# EAGLE library part 220MEZ (library combrd)
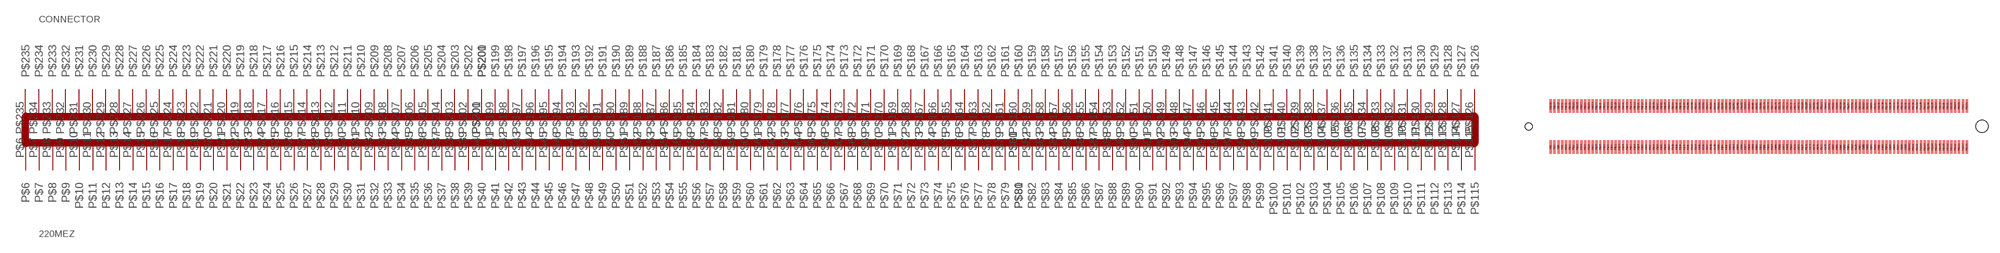
[diagram p0: symbol with the pads of MEZZANINE220; footprint MEZZANINE220]

Designator prefix CONNECTOR

## 220MEZ  [MEZZANINE220]
P$6  P$6
P$7  P$7
P$8  P$8
P$9  P$9
P$10  P$10
P$11  P$11
P$12  P$12
P$13  P$13
P$14  P$14
P$15  P$15
P$16  P$16
P$17  P$17
P$18  P$18
P$19  P$19
P$20  P$20
P$21  P$21
P$22  P$22
P$23  P$23
P$24  P$24
P$25  P$25
P$26  P$26
P$27  P$27
P$28  P$28
P$29  P$29
P$30  P$30
P$31  P$31
P$32  P$32
P$33  P$33
P$34  P$34
P$35  P$35
P$36  P$36
P$37  P$37
P$38  P$38
P$39  P$39
P$40  P$40
P$41  P$41
P$42  P$42
P$43  P$43
P$44  P$44
P$45  P$45
P$46  P$46
P$47  P$47
P$48  P$48
P$49  P$49
P$50  P$50
P$51  P$51
P$52  P$52
P$53  P$53
P$54  P$54
P$55  P$55
P$56  P$56
P$57  P$57
P$58  P$58
P$59  P$59
P$60  P$60
P$61  P$61
P$62  P$62
P$63  P$63
P$64  P$64
P$65  P$65
P$66  P$66
P$67  P$67
P$68  P$68
P$69  P$69
P$70  P$70
P$71  P$71
P$72  P$72
P$73  P$73
P$74  P$74
P$75  P$75
P$76  P$76
P$77  P$77
P$78  P$78
P$79  P$79
P$80  P$80
P$81  P$81
P$82  P$82
P$83  P$83
P$84  P$84
P$85  P$85
P$86  P$86
P$87  P$87
P$88  P$88
P$89  P$89
P$90  P$90
P$91  P$91
P$92  P$92
P$93  P$93
P$94  P$94
P$95  P$95
P$96  P$96
P$97  P$97
P$98  P$98
P$99  P$99
P$100  P$100
P$101  P$101
P$102  P$102
P$103  P$103
P$104  P$104
P$105  P$105
P$106  P$106
P$107  P$107
P$108  P$108
P$109  P$109
P$110  P$110
P$111  P$111
P$112  P$112
P$113  P$113
P$114  P$114
P$115  P$115
P$126  P$126
P$127  P$127
P$128  P$128
P$129  P$129
P$130  P$130
P$131  P$131
P$132  P$132
P$133  P$133
P$134  P$134
P$135  P$135
P$136  P$136
P$137  P$137
P$138  P$138
P$139  P$139
P$140  P$140
P$141  P$141
P$142  P$142
P$143  P$143
P$144  P$144
P$145  P$145
P$146  P$146
P$147  P$147
P$148  P$148
P$149  P$149
P$150  P$150
P$151  P$151
P$152  P$152
P$153  P$153
P$154  P$154
P$155  P$155
P$156  P$156
P$157  P$157
P$158  P$158
P$159  P$159
P$160  P$160
P$161  P$161
P$162  P$162
P$163  P$163
P$164  P$164
P$165  P$165
P$166  P$166
P$167  P$167
P$168  P$168
P$169  P$169
P$170  P$170
P$171  P$171
P$172  P$172
P$173  P$173
P$174  P$174
P$175  P$175
P$176  P$176
P$177  P$177
P$178  P$178
P$179  P$179
P$180  P$180
P$181  P$181
P$182  P$182
P$183  P$183
P$184  P$184
P$185  P$185
P$186  P$186
P$187  P$187
P$188  P$188
P$189  P$189
P$190  P$190
P$191  P$191
P$192  P$192
P$193  P$193
P$194  P$194
P$195  P$195
P$196  P$196
P$197  P$197
P$198  P$198
P$199  P$199
P$200  P$200
P$201  P$201
P$202  P$202
P$203  P$203
P$204  P$204
P$205  P$205
P$206  P$206
P$207  P$207
P$208  P$208
P$209  P$209
P$210  P$210
P$211  P$211
P$212  P$212
P$213  P$213
P$214  P$214
P$215  P$215
P$216  P$216
P$217  P$217
P$218  P$218
P$219  P$219
P$220  P$220
P$221  P$221
P$222  P$222
P$223  P$223
P$224  P$224
P$225  P$225
P$226  P$226
P$227  P$227
P$228  P$228
P$229  P$229
P$230  P$230
P$231  P$231
P$232  P$232
P$233  P$233
P$234  P$234
P$235  P$235

## Footprint MEZZANINE220 (pad centres in mm)
smd 0.3 x 1.75: P$6 2.7,0.9; P$7 3.2,0.9; P$8 3.7,0.9; P$9 4.2,0.9; P$10 4.7,0.9; P$11 5.2,0.9; P$12 5.7,0.9; P$13 6.2,0.9; P$14 6.7,0.9; P$15 7.2,0.9; P$16 7.7,0.9; P$17 8.2,0.9; P$18 8.7,0.9; P$19 9.2,0.9; P$20 9.7,0.9; P$21 10.2,0.9; P$22 10.7,0.9; P$23 11.2,0.9; P$24 11.7,0.9; P$25 12.2,0.9; P$26 12.7,0.9; P$27 13.2,0.9; P$28 13.7,0.9; P$29 14.2,0.9; P$30 14.7,0.9; P$31 15.2,0.9; P$32 15.7,0.9; P$33 16.2,0.9; P$34 16.7,0.9; P$35 17.2,0.9; P$36 17.7,0.9; P$37 18.2,0.9; P$38 18.7,0.9; P$39 19.2,0.9; P$40 19.7,0.9; P$41 20.2,0.9; P$42 20.7,0.9; P$43 21.2,0.9; P$44 21.7,0.9; P$45 22.2,0.9; P$46 22.7,0.9; P$47 23.2,0.9; P$48 23.7,0.9; P$49 24.2,0.9; P$50 24.7,0.9; P$51 25.2,0.9; P$52 25.7,0.9; P$53 26.2,0.9; P$54 26.7,0.9; P$55 27.2,0.9; P$56 27.7,0.9; P$57 28.2,0.9; P$58 28.7,0.9; P$59 29.2,0.9; P$60 29.7,0.9; P$61 30.2,0.9; P$62 30.7,0.9; P$63 31.2,0.9; P$64 31.7,0.9; P$65 32.2,0.9; P$66 32.7,0.9; P$67 33.2,0.9; P$68 33.7,0.9; P$69 34.2,0.9; P$70 34.7,0.9; P$71 35.2,0.9; P$72 35.7,0.9; P$73 36.2,0.9; P$74 36.7,0.9; P$75 37.2,0.9; P$76 37.7,0.9; P$77 38.2,0.9; P$78 38.7,0.9; P$79 39.2,0.9; P$80 39.7,0.9; P$81 40.2,0.9; P$82 40.7,0.9; P$83 41.2,0.9; P$84 41.7,0.9; P$85 42.2,0.9; P$86 42.7,0.9; P$87 43.2,0.9; P$88 43.7,0.9; P$89 44.2,0.9; P$90 44.7,0.9; P$91 45.2,0.9; P$92 45.7,0.9; P$93 46.2,0.9; P$94 46.7,0.9; P$95 47.2,0.9; P$96 47.7,0.9; P$97 48.2,0.9; P$98 48.7,0.9; P$99 49.2,0.9; P$100 49.7,0.9; P$101 50.2,0.9; P$102 50.7,0.9; P$103 51.2,0.9; P$104 51.7,0.9; P$105 52.2,0.9; P$106 52.7,0.9; P$107 53.2,0.9; P$108 53.7,0.9; P$109 54.2,0.9; P$110 54.7,0.9; P$111 55.2,0.9; P$112 55.7,0.9; P$113 56.2,0.9; P$114 56.7,0.9; P$115 57.2,0.9; P$126 57.2,6.3; P$127 56.7,6.3; P$128 56.2,6.3; P$129 55.7,6.3; P$130 55.2,6.3; P$131 54.7,6.3; P$132 54.2,6.3; P$133 53.7,6.3; P$134 53.2,6.3; P$135 52.7,6.3; P$136 52.2,6.3; P$137 51.7,6.3; P$138 51.2,6.3; P$139 50.7,6.3; P$140 50.2,6.3; P$141 49.7,6.3; P$142 49.2,6.3; P$143 48.7,6.3; P$144 48.2,6.3; P$145 47.7,6.3; P$146 47.2,6.3; P$147 46.7,6.3; P$148 46.2,6.3; P$149 45.7,6.3; P$150 45.2,6.3; P$151 44.7,6.3; P$152 44.2,6.3; P$153 43.7,6.3; P$154 43.2,6.3; P$155 42.7,6.3; P$156 42.2,6.3; P$157 41.7,6.3; P$158 41.2,6.3; P$159 40.7,6.3; P$160 40.2,6.3; P$161 39.7,6.3; P$162 39.2,6.3; P$163 38.7,6.3; P$164 38.2,6.3; P$165 37.7,6.3; P$166 37.2,6.3; P$167 36.7,6.3; P$168 36.2,6.3; P$169 35.7,6.3; P$170 35.2,6.3; P$171 34.7,6.3; P$172 34.2,6.3; P$173 33.7,6.3; P$174 33.2,6.3; P$175 32.7,6.3; P$176 32.2,6.3; P$177 31.7,6.3; P$178 31.2,6.3; P$179 30.7,6.3; P$180 30.2,6.3; P$181 29.7,6.3; P$182 29.2,6.3; P$183 28.7,6.3; P$184 28.2,6.3; P$185 27.7,6.3; P$186 27.2,6.3; P$187 26.7,6.3; P$188 26.2,6.3; P$189 25.7,6.3; P$190 25.2,6.3; P$191 24.7,6.3; P$192 24.2,6.3; P$193 23.7,6.3; P$194 23.2,6.3; P$195 22.7,6.3; P$196 22.2,6.3; P$197 21.7,6.3; P$198 21.2,6.3; P$199 20.7,6.3; P$200 20.2,6.3; P$201 19.7,6.3; P$202 19.2,6.3; P$203 18.7,6.3; P$204 18.2,6.3; P$205 17.7,6.3; P$206 17.2,6.3; P$207 16.7,6.3; P$208 16.2,6.3; P$209 15.7,6.3; P$210 15.2,6.3; P$211 14.7,6.3; P$212 14.2,6.3; P$213 13.7,6.3; P$214 13.2,6.3; P$215 12.7,6.3; P$216 12.2,6.3; P$217 11.7,6.3; P$218 11.2,6.3; P$219 10.7,6.3; P$220 10.2,6.3; P$221 9.7,6.3; P$222 9.2,6.3; P$223 8.7,6.3; P$224 8.2,6.3; P$225 7.7,6.3; P$226 7.2,6.3; P$227 6.7,6.3; P$228 6.2,6.3; P$229 5.7,6.3; P$230 5.2,6.3; P$231 4.7,6.3; P$232 4.2,6.3; P$233 3.7,6.3; P$234 3.2,6.3; P$235 2.7,6.3
hole 0.9 at -0.2,3.6
hole 1.6 at 59.2,3.6